# EAGLE library part TPS610981 (library ck)
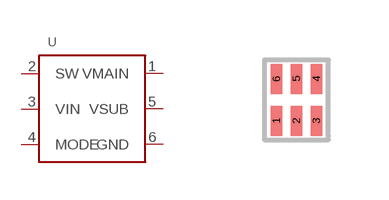
[diagram p27: symbol with the pads of WSON-6; footprint WSON-6]

Designator prefix U

## TPS610981  [WSON-6]
1  VMAIN
2  SW
3  VIN
4  MODE
5  VSUB
6  GND

## Footprint WSON-6 (pad centres in mm)
smd 0.28 x 0.75: 1 -0.5,-0.525; 2 0,-0.525; 3 0.5,-0.525; 4 0.5,0.525; 5 0,0.525; 6 -0.5,0.525